# Altium schematic symbol library MX1.25.SCHLIB: 3 symbols
Pins are listed as number, name and electrical type; pins without a type are passive.

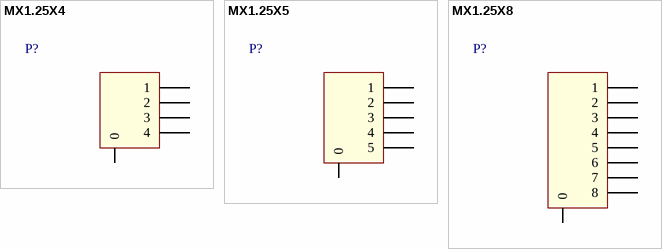
[diagram p0: symbols MX1.25X4 to MX1.25X8]

## MX1.25X4
designator P?  (value not drawn)
footprint MX1.25X4
pins: 0, 1, 2, 3, 4

## MX1.25X5
designator P?  (value not drawn)
footprint MX1.25X5 (Footprint not found)
pins: 0, 1, 2, 3, 4, 5

## MX1.25X8
designator P?  (value not drawn)
footprint MX1.25X8 (Footprint not found)
pins: 0, 1, 2, 3, 4, 5, 6, 7, 8